# Altium integrated library Silicon Labs Wireless.IntLib: 71 symbols (part 6 of 7)
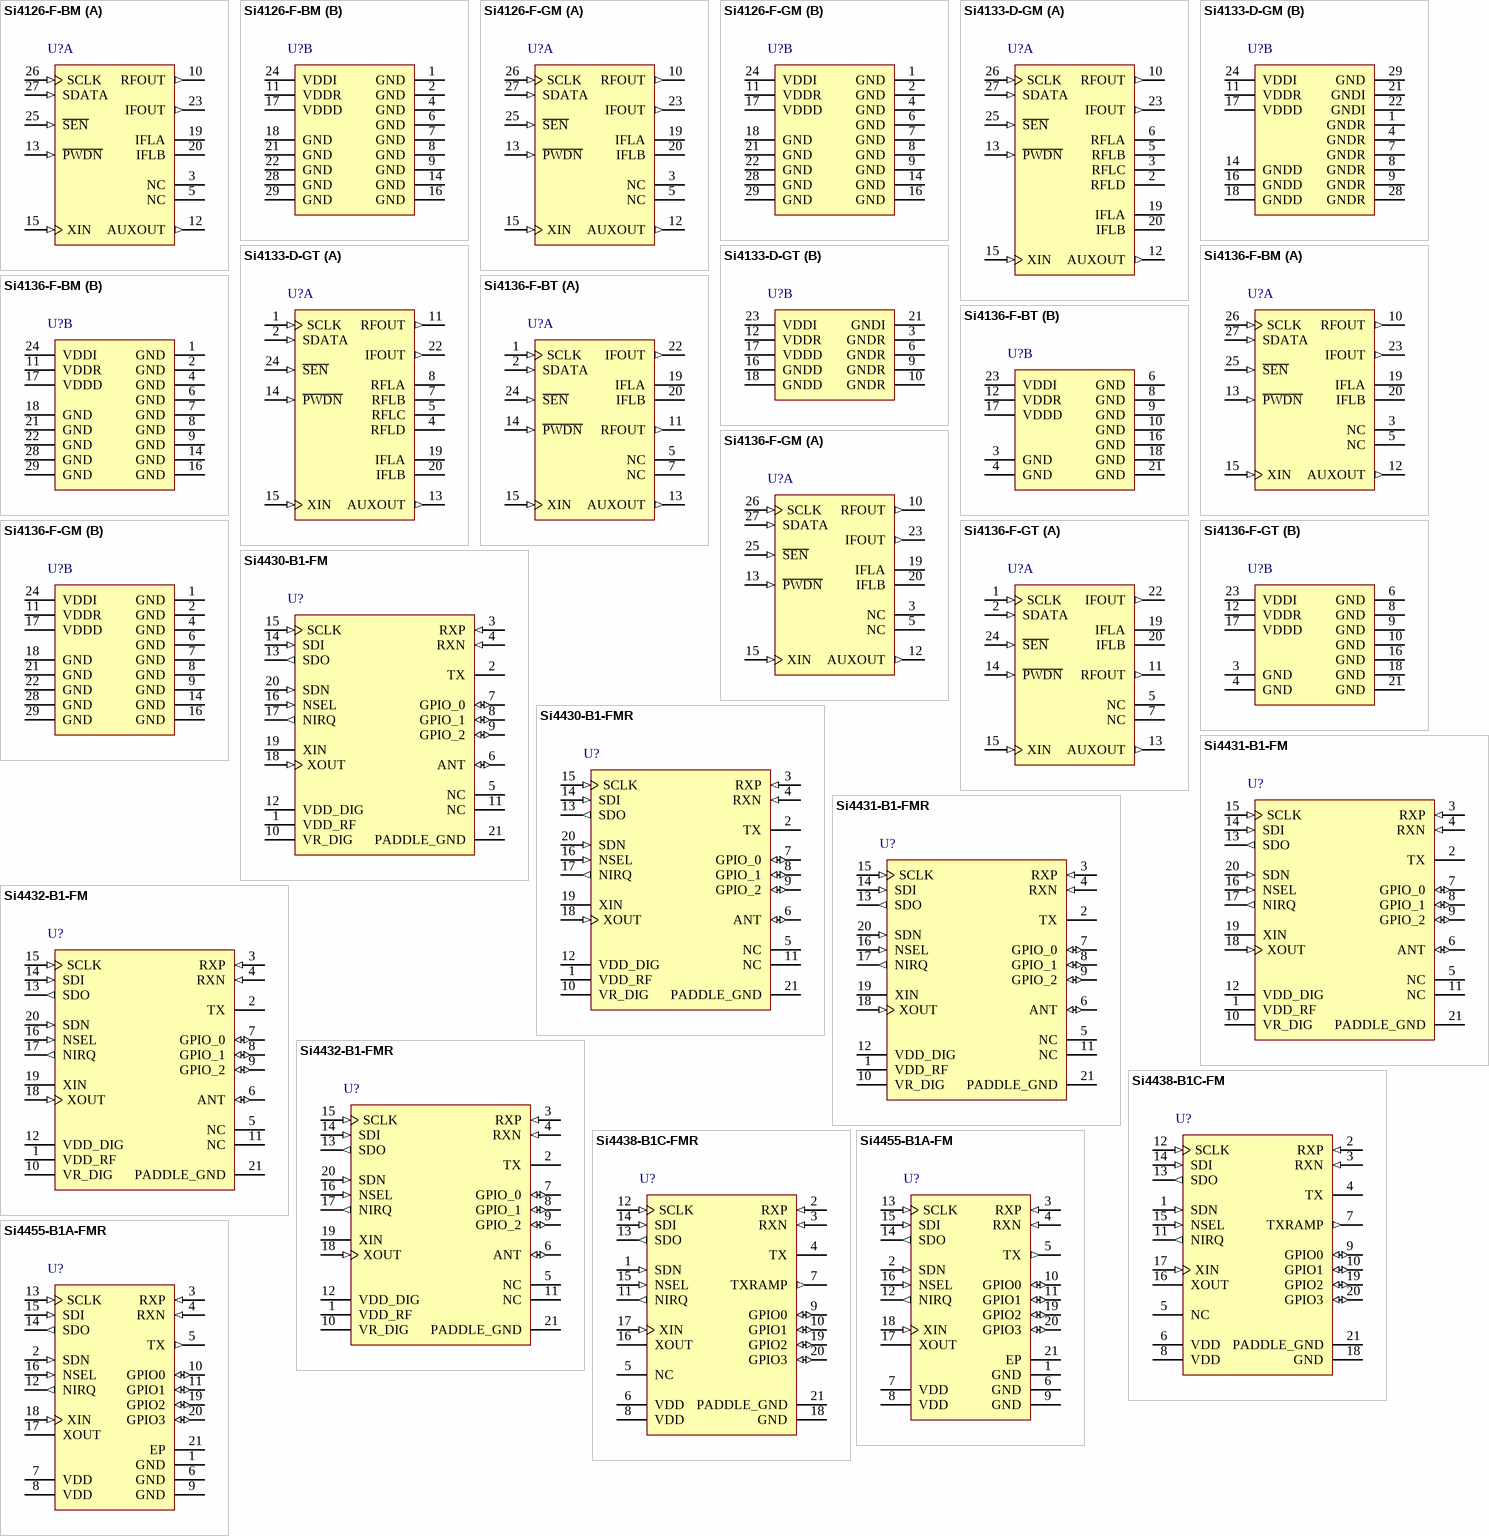
[diagram p11: symbols Si4126-F-BM to Si4455-B1A-FMR]

## Si4430-B1-FM
designator U?
Si4430 ISM Transceiver, 900 to 960 MHz, -8 to 13 dBm Output Power, -40 to 85 degC, 20-pin QFN, Tube; Manufacturer: Silicon Labs; PartNumber: Si4430-B1-FM; FSK/GFSK: 256 kbps; OOK: 40 kbps; RX Current: 18.5 mA; Sub-Family: EZRadioPRO; DatasheetVersion: Rev. 1.1; PackageReference: QFN-20; PackageDescription: 20-Pin Quad-Flat No-Leads Package, Body 4 x 4 mm, Pitch 0.5 mm; Supplier 1: Digi-Key; Supplier Part Number 1: 336-2520-5-ND; Supplier 2: Mouser; Supplier Part Number 2: 634-SI4430-B1-FM; Frequency Range: 900 to 960 MHz; Output Power Range: -8 to 13 dBm; Packing: Tube; Mounting Technology: Surface Mount; Code_JEDEC: MO-220; Code_IPC: J-STD-020C; ComponentLink1Description: Manufacturer URL; ComponentLink1URL: http://www.silabs.com/; ComponentLink2Description: Datasheet; ComponentLink2URL: http://www.silabs.com/Support Documents/TechnicalDocs/Si4430-31-32.pdf; ComponentLink3Description: Package Specification; ComponentLink3URL: http://www.silabs.com/Support%20Documents/TechnicalDocs/Si4464-63-61-60.pdf
footprint SLAB-QFN-20-2600x2600TP_N (QFN, 20-Leads, Body 4x4mm, Pitch 0.5mm, Thermal Pad 2.6x2.6mm, IPC Medium Density)
footprint SLAB-QFN-20-2600x2600TP_L (QFN, 20-Leads, Body 4x4mm, Pitch 0.5mm, Thermal Pad 2.6x2.6mm, IPC High Density)
footprint SLAB-QFN-20-2600x2600TP_M (QFN, 20-Leads, Body 4x4mm, Pitch 0.5mm, Thermal Pad 2.6x2.6mm, IPC Low Density)
pins: 1 VDD_RF (power) "+1.8 to +3.6 V supply voltage input to all analog +1.7 V regulators. The recommended VDD supply voltage is +3.3 V.", 2 TX (oc) "Transmit output pin. The PA output is an open-drain connection so the L-C match must supply VDD (+3.3 VDC nominal) to this pin.", 3 RXP (in) "Differential RF input pins of the LNA. See application schematic for example matching network.", 4 RXN (in) "Differential RF input pins of the LNA. See application schematic for example matching network.", 5 NC "No Connect. Not connected internally to any circuitry.", 6 ANT (io) "Extra antenna or TR switch control to be used if more GPIO are required. Pin is a hardwired version of GPIO setting 11000, Antenna 2 and can be manually controlled by the antdiv[2:0] bits in register 08h. See register (See Datasheet)", 7 GPIO_0 (io) "General Purpose Digital I/O that may be configured through the registers to perform various functions including: Microcontroller Clock Output, FIFO status, POR, Wake-Up timer, Low Battery Detect, TRSW, AntDiversity control, (See Datasheet)", 8 GPIO_1 (io) "General Purpose Digital I/O that may be configured through the registers to perform various functions including: Microcontroller Clock Output, FIFO status, POR, Wake-Up timer, Low Battery Detect, TRSW, AntDiversity control, (See Datasheet)", 9 GPIO_2 (io) "General Purpose Digital I/O that may be configured through the registers to perform various functions including: Microcontroller Clock Output, FIFO status, POR, Wake-Up timer, Low Battery Detect, TRSW, AntDiversity control, (See Datasheet)", 10 VR_DIG (power) "Regulated Output Voltage of the Digital 1.7 V Regulator. A 1 uF decoupling capacitor is required.", 11 NC "Internally this pin is tied to the paddle of the package. This pin should be left unconnected or connected to GND only.", 12 VDD_DIG (power) "+1.8 to +3.6 V supply voltage input to the Digital +1.7 V Regulator. The recommended VDD supply voltage is +3.3 V.", 13 SDO (out) "0-VDD V digital output that provides a serial readback function of the internal control registers.", 14 SDI (in) "Serial Data input. 0-VDD V digital input. This pin provides the serial data stream for the 4-line serial data bus.", 15 SCLK (in) "Serial Clock input. 0-VDD V digital input. This pin provides the serial data clock function for the 4-line serial data bus. Data is clocked into the Si4430/31/32 on positive edge transitions.", 16 NSEL (in) "Serial Interface Select input. 0- VDD V digital input. This pin provides the Select/Enable function for the 4-line serial data bus. The signal is also used to signify burst read/write mode.", 17 NIRQ (out) "General Microcontroller Interrupt Status output. When the Si4430/31/32 exhibits anyone of the Interrupt Events the nIRQ pin will be set low=0. Please see the Control Logic registers section for more information on the (See Datasheet)", 18 XOUT (in) "Crystal Oscillator Output. Connect to an external 30 MHz crystal or to an external source. If using an external source with no crystal then dc coupling with a nominal 0.8 VDC level is recommended with a minimum amplitude of (See Datasheet)", 19 XIN "Crystal Oscillator Input. Connect to an external 30 MHz crystal or leave floating when driving with an external source on XOUT..", 20 SDN (in) "Shutdown input pin. 0-VDD V digital input. SDN should be = 0 in all modes except Shutdown mode. When SDN =1 the chip will be completely shutdown and the contents of the registers will be lost.", 21 PADDLE_GND (power) "The exposed metal paddle on the bottom of the Si4430/31/32 supplies the RF and circuit ground(s) for the entire chip. It is very important that a good solder connection is made between this exposed metal paddle and the (See Datasheet)"

## Si4430-B1-FMR
designator U?
Si4430 ISM Transceiver, 900 to 960 MHz, -8 to 13 dBm Output Power, -40 to 85 degC, 20-pin QFN, Tape and Reel; Manufacturer: Silicon Labs; PartNumber: Si4430-B1-FMR; FSK/GFSK: 256 kbps; OOK: 40 kbps; RX Current: 18.5 mA; Sub-Family: EZRadioPRO; DatasheetVersion: Rev. 1.1; PackageReference: QFN-20; PackageDescription: 20-Pin Quad-Flat No-Leads Package, Body 4 x 4 mm, Pitch 0.5 mm; Supplier 1: Digi-Key; Supplier Part Number 1: SI4430-B1-FMR-ND; Supplier 2: Mouser; Supplier Part Number 2: 634-SI4430-B1-FMR; Frequency Range: 900 to 960 MHz; Output Power Range: -8 to 13 dBm; Packing: Tape and Reel; Mounting Technology: Surface Mount; Code_JEDEC: MO-220; Code_IPC: J-STD-020C; ComponentLink1Description: Manufacturer URL; ComponentLink1URL: http://www.silabs.com/; ComponentLink2Description: Datasheet; ComponentLink2URL: http://www.silabs.com/Support Documents/TechnicalDocs/Si4430-31-32.pdf; ComponentLink3Description: Package Specification; ComponentLink3URL: http://www.silabs.com/Support%20Documents/TechnicalDocs/Si4464-63-61-60.pdf
footprint SLAB-QFN-20-2600x2600TP_N (QFN, 20-Leads, Body 4x4mm, Pitch 0.5mm, Thermal Pad 2.6x2.6mm, IPC Medium Density)
footprint SLAB-QFN-20-2600x2600TP_L (QFN, 20-Leads, Body 4x4mm, Pitch 0.5mm, Thermal Pad 2.6x2.6mm, IPC High Density)
footprint SLAB-QFN-20-2600x2600TP_M (QFN, 20-Leads, Body 4x4mm, Pitch 0.5mm, Thermal Pad 2.6x2.6mm, IPC Low Density)
pins: 1 VDD_RF (power) "+1.8 to +3.6 V supply voltage input to all analog +1.7 V regulators. The recommended VDD supply voltage is +3.3 V.", 2 TX (oc) "Transmit output pin. The PA output is an open-drain connection so the L-C match must supply VDD (+3.3 VDC nominal) to this pin.", 3 RXP (in) "Differential RF input pins of the LNA. See application schematic for example matching network.", 4 RXN (in) "Differential RF input pins of the LNA. See application schematic for example matching network.", 5 NC "No Connect. Not connected internally to any circuitry.", 6 ANT (io) "Extra antenna or TR switch control to be used if more GPIO are required. Pin is a hardwired version of GPIO setting 11000, Antenna 2 and can be manually controlled by the antdiv[2:0] bits in register 08h. See register (See Datasheet)", 7 GPIO_0 (io) "General Purpose Digital I/O that may be configured through the registers to perform various functions including: Microcontroller Clock Output, FIFO status, POR, Wake-Up timer, Low Battery Detect, TRSW, AntDiversity control, (See Datasheet)", 8 GPIO_1 (io) "General Purpose Digital I/O that may be configured through the registers to perform various functions including: Microcontroller Clock Output, FIFO status, POR, Wake-Up timer, Low Battery Detect, TRSW, AntDiversity control, (See Datasheet)", 9 GPIO_2 (io) "General Purpose Digital I/O that may be configured through the registers to perform various functions including: Microcontroller Clock Output, FIFO status, POR, Wake-Up timer, Low Battery Detect, TRSW, AntDiversity control, (See Datasheet)", 10 VR_DIG (power) "Regulated Output Voltage of the Digital 1.7 V Regulator. A 1 uF decoupling capacitor is required.", 11 NC "Internally this pin is tied to the paddle of the package. This pin should be left unconnected or connected to GND only.", 12 VDD_DIG (power) "+1.8 to +3.6 V supply voltage input to the Digital +1.7 V Regulator. The recommended VDD supply voltage is +3.3 V.", 13 SDO (out) "0-VDD V digital output that provides a serial readback function of the internal control registers.", 14 SDI (in) "Serial Data input. 0-VDD V digital input. This pin provides the serial data stream for the 4-line serial data bus.", 15 SCLK (in) "Serial Clock input. 0-VDD V digital input. This pin provides the serial data clock function for the 4-line serial data bus. Data is clocked into the Si4430/31/32 on positive edge transitions.", 16 NSEL (in) "Serial Interface Select input. 0- VDD V digital input. This pin provides the Select/Enable function for the 4-line serial data bus. The signal is also used to signify burst read/write mode.", 17 NIRQ (out) "General Microcontroller Interrupt Status output. When the Si4430/31/32 exhibits anyone of the Interrupt Events the nIRQ pin will be set low=0. Please see the Control Logic registers section for more information on the (See Datasheet)", 18 XOUT (in) "Crystal Oscillator Output. Connect to an external 30 MHz crystal or to an external source. If using an external source with no crystal then dc coupling with a nominal 0.8 VDC level is recommended with a minimum amplitude of (See Datasheet)", 19 XIN "Crystal Oscillator Input. Connect to an external 30 MHz crystal or leave floating when driving with an external source on XOUT..", 20 SDN (in) "Shutdown input pin. 0-VDD V digital input. SDN should be = 0 in all modes except Shutdown mode. When SDN =1 the chip will be completely shutdown and the contents of the registers will be lost.", 21 PADDLE_GND (power) "The exposed metal paddle on the bottom of the Si4430/31/32 supplies the RF and circuit ground(s) for the entire chip. It is very important that a good solder connection is made between this exposed metal paddle and the (See Datasheet)"

## Si4431-B1-FM
designator U?
Si4431 ISM Transceiver, 240 to 930 MHz, -8 to 13 dBm Output Power, -40 to 85 degC, 20-pin QFN, Tube; Manufacturer: Silicon Labs; PartNumber: Si4431-B1-FM; FSK/GFSK: 256 kbps; OOK: 40 kbps; RX Current: 18.5 mA; Sub-Family: EZRadioPRO; DatasheetVersion: Rev. 1.1; PackageReference: QFN-20; PackageDescription: 20-Pin Quad-Flat No-Leads Package, Body 4 x 4 mm, Pitch 0.5 mm; Supplier 1: Digi-Key; Supplier Part Number 1: 336-2521-5-ND; Supplier 2: Mouser; Supplier Part Number 2: 634-SI4431-B1-FM; Frequency Range: 240 to 930 MHz; Output Power Range: -8 to 13 dBm; Packing: Tube; Mounting Technology: Surface Mount; Code_JEDEC: MO-220; Code_IPC: J-STD-020C; ComponentLink1Description: Manufacturer URL; ComponentLink1URL: http://www.silabs.com/; ComponentLink2Description: Datasheet; ComponentLink2URL: http://www.silabs.com/Support Documents/TechnicalDocs/Si4430-31-32.pdf; ComponentLink3Description: Package Specification; ComponentLink3URL: http://www.silabs.com/Support%20Documents/TechnicalDocs/Si4464-63-61-60.pdf
footprint SLAB-QFN-20-2600x2600TP_N (QFN, 20-Leads, Body 4x4mm, Pitch 0.5mm, Thermal Pad 2.6x2.6mm, IPC Medium Density)
footprint SLAB-QFN-20-2600x2600TP_L (QFN, 20-Leads, Body 4x4mm, Pitch 0.5mm, Thermal Pad 2.6x2.6mm, IPC High Density)
footprint SLAB-QFN-20-2600x2600TP_M (QFN, 20-Leads, Body 4x4mm, Pitch 0.5mm, Thermal Pad 2.6x2.6mm, IPC Low Density)
pins: 1 VDD_RF (power) "+1.8 to +3.6 V supply voltage input to all analog +1.7 V regulators. The recommended VDD supply voltage is +3.3 V.", 2 TX (oc) "Transmit output pin. The PA output is an open-drain connection so the L-C match must supply VDD (+3.3 VDC nominal) to this pin.", 3 RXP (in) "Differential RF input pins of the LNA. See application schematic for example matching network.", 4 RXN (in) "Differential RF input pins of the LNA. See application schematic for example matching network.", 5 NC "No Connect. Not connected internally to any circuitry.", 6 ANT (io) "Extra antenna or TR switch control to be used if more GPIO are required. Pin is a hardwired version of GPIO setting 11000, Antenna 2 and can be manually controlled by the antdiv[2:0] bits in register 08h. See register (See Datasheet)", 7 GPIO_0 (io) "General Purpose Digital I/O that may be configured through the registers to perform various functions including: Microcontroller Clock Output, FIFO status, POR, Wake-Up timer, Low Battery Detect, TRSW, AntDiversity control, (See Datasheet)", 8 GPIO_1 (io) "General Purpose Digital I/O that may be configured through the registers to perform various functions including: Microcontroller Clock Output, FIFO status, POR, Wake-Up timer, Low Battery Detect, TRSW, AntDiversity control, (See Datasheet)", 9 GPIO_2 (io) "General Purpose Digital I/O that may be configured through the registers to perform various functions including: Microcontroller Clock Output, FIFO status, POR, Wake-Up timer, Low Battery Detect, TRSW, AntDiversity control, (See Datasheet)", 10 VR_DIG (power) "Regulated Output Voltage of the Digital 1.7 V Regulator. A 1 uF decoupling capacitor is required.", 11 NC "Internally this pin is tied to the paddle of the package. This pin should be left unconnected or connected to GND only.", 12 VDD_DIG (power) "+1.8 to +3.6 V supply voltage input to the Digital +1.7 V Regulator. The recommended VDD supply voltage is +3.3 V.", 13 SDO (out) "0-VDD V digital output that provides a serial readback function of the internal control registers.", 14 SDI (in) "Serial Data input. 0-VDD V digital input. This pin provides the serial data stream for the 4-line serial data bus.", 15 SCLK (in) "Serial Clock input. 0-VDD V digital input. This pin provides the serial data clock function for the 4-line serial data bus. Data is clocked into the Si4430/31/32 on positive edge transitions.", 16 NSEL (in) "Serial Interface Select input. 0- VDD V digital input. This pin provides the Select/Enable function for the 4-line serial data bus. The signal is also used to signify burst read/write mode.", 17 NIRQ (out) "General Microcontroller Interrupt Status output. When the Si4430/31/32 exhibits anyone of the Interrupt Events the nIRQ pin will be set low=0. Please see the Control Logic registers section for more information on the (See Datasheet)", 18 XOUT (in) "Crystal Oscillator Output. Connect to an external 30 MHz crystal or to an external source. If using an external source with no crystal then dc coupling with a nominal 0.8 VDC level is recommended with a minimum amplitude of (See Datasheet)", 19 XIN "Crystal Oscillator Input. Connect to an external 30 MHz crystal or leave floating when driving with an external source on XOUT..", 20 SDN (in) "Shutdown input pin. 0-VDD V digital input. SDN should be = 0 in all modes except Shutdown mode. When SDN =1 the chip will be completely shutdown and the contents of the registers will be lost.", 21 PADDLE_GND (power) "The exposed metal paddle on the bottom of the Si4430/31/32 supplies the RF and circuit ground(s) for the entire chip. It is very important that a good solder connection is made between this exposed metal paddle and the (See Datasheet)"

## Si4431-B1-FMR
designator U?
Si4431 ISM Transceiver, 240 to 930 MHz, -8 to 13 dBm Output Power, -40 to 85 degC, 20-pin QFN, Tape and Reel; Manufacturer: Silicon Labs; PartNumber: Si4431-B1-FMR; FSK/GFSK: 256 kbps; OOK: 40 kbps; RX Current: 18.5 mA; Sub-Family: EZRadioPRO; DatasheetVersion: Rev. 1.1; PackageReference: QFN-20; PackageDescription: 20-Pin Quad-Flat No-Leads Package, Body 4 x 4 mm, Pitch 0.5 mm; Supplier 1: Digi-Key; Supplier Part Number 1: SI4431-B1-FMR-ND; Supplier 2: Mouser; Supplier Part Number 2: 634-SI4431-B1-FMR; Frequency Range: 240 to 930 MHz; Output Power Range: -8 to 13 dBm; Packing: Tape and Reel; Mounting Technology: Surface Mount; Code_JEDEC: MO-220; Code_IPC: J-STD-020C; ComponentLink1Description: Manufacturer URL; ComponentLink1URL: http://www.silabs.com/; ComponentLink2Description: Datasheet; ComponentLink2URL: http://www.silabs.com/Support Documents/TechnicalDocs/Si4430-31-32.pdf; ComponentLink3Description: Package Specification; ComponentLink3URL: http://www.silabs.com/Support%20Documents/TechnicalDocs/Si4464-63-61-60.pdf
footprint SLAB-QFN-20-2600x2600TP_N (QFN, 20-Leads, Body 4x4mm, Pitch 0.5mm, Thermal Pad 2.6x2.6mm, IPC Medium Density)
footprint SLAB-QFN-20-2600x2600TP_L (QFN, 20-Leads, Body 4x4mm, Pitch 0.5mm, Thermal Pad 2.6x2.6mm, IPC High Density)
footprint SLAB-QFN-20-2600x2600TP_M (QFN, 20-Leads, Body 4x4mm, Pitch 0.5mm, Thermal Pad 2.6x2.6mm, IPC Low Density)
pins: 1 VDD_RF (power) "+1.8 to +3.6 V supply voltage input to all analog +1.7 V regulators. The recommended VDD supply voltage is +3.3 V.", 2 TX (oc) "Transmit output pin. The PA output is an open-drain connection so the L-C match must supply VDD (+3.3 VDC nominal) to this pin.", 3 RXP (in) "Differential RF input pins of the LNA. See application schematic for example matching network.", 4 RXN (in) "Differential RF input pins of the LNA. See application schematic for example matching network.", 5 NC "No Connect. Not connected internally to any circuitry.", 6 ANT (io) "Extra antenna or TR switch control to be used if more GPIO are required. Pin is a hardwired version of GPIO setting 11000, Antenna 2 and can be manually controlled by the antdiv[2:0] bits in register 08h. See register (See Datasheet)", 7 GPIO_0 (io) "General Purpose Digital I/O that may be configured through the registers to perform various functions including: Microcontroller Clock Output, FIFO status, POR, Wake-Up timer, Low Battery Detect, TRSW, AntDiversity control, (See Datasheet)", 8 GPIO_1 (io) "General Purpose Digital I/O that may be configured through the registers to perform various functions including: Microcontroller Clock Output, FIFO status, POR, Wake-Up timer, Low Battery Detect, TRSW, AntDiversity control, (See Datasheet)", 9 GPIO_2 (io) "General Purpose Digital I/O that may be configured through the registers to perform various functions including: Microcontroller Clock Output, FIFO status, POR, Wake-Up timer, Low Battery Detect, TRSW, AntDiversity control, (See Datasheet)", 10 VR_DIG (power) "Regulated Output Voltage of the Digital 1.7 V Regulator. A 1 uF decoupling capacitor is required.", 11 NC "Internally this pin is tied to the paddle of the package. This pin should be left unconnected or connected to GND only.", 12 VDD_DIG (power) "+1.8 to +3.6 V supply voltage input to the Digital +1.7 V Regulator. The recommended VDD supply voltage is +3.3 V.", 13 SDO (out) "0-VDD V digital output that provides a serial readback function of the internal control registers.", 14 SDI (in) "Serial Data input. 0-VDD V digital input. This pin provides the serial data stream for the 4-line serial data bus.", 15 SCLK (in) "Serial Clock input. 0-VDD V digital input. This pin provides the serial data clock function for the 4-line serial data bus. Data is clocked into the Si4430/31/32 on positive edge transitions.", 16 NSEL (in) "Serial Interface Select input. 0- VDD V digital input. This pin provides the Select/Enable function for the 4-line serial data bus. The signal is also used to signify burst read/write mode.", 17 NIRQ (out) "General Microcontroller Interrupt Status output. When the Si4430/31/32 exhibits anyone of the Interrupt Events the nIRQ pin will be set low=0. Please see the Control Logic registers section for more information on the (See Datasheet)", 18 XOUT (in) "Crystal Oscillator Output. Connect to an external 30 MHz crystal or to an external source. If using an external source with no crystal then dc coupling with a nominal 0.8 VDC level is recommended with a minimum amplitude of (See Datasheet)", 19 XIN "Crystal Oscillator Input. Connect to an external 30 MHz crystal or leave floating when driving with an external source on XOUT..", 20 SDN (in) "Shutdown input pin. 0-VDD V digital input. SDN should be = 0 in all modes except Shutdown mode. When SDN =1 the chip will be completely shutdown and the contents of the registers will be lost.", 21 PADDLE_GND (power) "The exposed metal paddle on the bottom of the Si4430/31/32 supplies the RF and circuit ground(s) for the entire chip. It is very important that a good solder connection is made between this exposed metal paddle and the (See Datasheet)"

## Si4432-B1-FM
designator U?
Si4432 ISM Transceiver, 240 to 930 MHz, 1 to 20 dBm Output Power, -40 to 85 degC, 20-pin QFN, Tube; Manufacturer: Silicon Labs; PartNumber: Si4432-B1-FM; FSK/GFSK: 256 kbps; OOK: 40 kbps; RX Current: 18.5 mA; Sub-Family: EZRadioPRO; DatasheetVersion: Rev. 1.1; PackageReference: QFN-20; PackageDescription: 20-Pin Quad-Flat No-Leads Package, Body 4 x 4 mm, Pitch 0.5 mm; Supplier 1: Digi-Key; Supplier Part Number 1: 336-2522-5-ND; Supplier 2: Mouser; Supplier Part Number 2: 634-SI4432-B1-FM; Frequency Range: 240 to 930 MHz; Output Power Range: 1 to 20 dBm; Packing: Tube; Mounting Technology: Surface Mount; Code_JEDEC: MO-220; Code_IPC: J-STD-020C; ComponentLink1Description: Manufacturer URL; ComponentLink1URL: http://www.silabs.com/; ComponentLink2Description: Datasheet; ComponentLink2URL: http://www.silabs.com/Support Documents/TechnicalDocs/Si4430-31-32.pdf; ComponentLink3Description: Package Specification; ComponentLink3URL: http://www.silabs.com/Support%20Documents/TechnicalDocs/Si4464-63-61-60.pdf
footprint SLAB-QFN-20-2600x2600TP_N (QFN, 20-Leads, Body 4x4mm, Pitch 0.5mm, Thermal Pad 2.6x2.6mm, IPC Medium Density)
footprint SLAB-QFN-20-2600x2600TP_L (QFN, 20-Leads, Body 4x4mm, Pitch 0.5mm, Thermal Pad 2.6x2.6mm, IPC High Density)
footprint SLAB-QFN-20-2600x2600TP_M (QFN, 20-Leads, Body 4x4mm, Pitch 0.5mm, Thermal Pad 2.6x2.6mm, IPC Low Density)
pins: 1 VDD_RF (power) "+1.8 to +3.6 V supply voltage input to all analog +1.7 V regulators. The recommended VDD supply voltage is +3.3 V.", 2 TX (oc) "Transmit output pin. The PA output is an open-drain connection so the L-C match must supply VDD (+3.3 VDC nominal) to this pin.", 3 RXP (in) "Differential RF input pins of the LNA. See application schematic for example matching network.", 4 RXN (in) "Differential RF input pins of the LNA. See application schematic for example matching network.", 5 NC "No Connect. Not connected internally to any circuitry.", 6 ANT (io) "Extra antenna or TR switch control to be used if more GPIO are required. Pin is a hardwired version of GPIO setting 11000, Antenna 2 and can be manually controlled by the antdiv[2:0] bits in register 08h. See register (See Datasheet)", 7 GPIO_0 (io) "General Purpose Digital I/O that may be configured through the registers to perform various functions including: Microcontroller Clock Output, FIFO status, POR, Wake-Up timer, Low Battery Detect, TRSW, AntDiversity control, (See Datasheet)", 8 GPIO_1 (io) "General Purpose Digital I/O that may be configured through the registers to perform various functions including: Microcontroller Clock Output, FIFO status, POR, Wake-Up timer, Low Battery Detect, TRSW, AntDiversity control, (See Datasheet)", 9 GPIO_2 (io) "General Purpose Digital I/O that may be configured through the registers to perform various functions including: Microcontroller Clock Output, FIFO status, POR, Wake-Up timer, Low Battery Detect, TRSW, AntDiversity control, (See Datasheet)", 10 VR_DIG (power) "Regulated Output Voltage of the Digital 1.7 V Regulator. A 1 uF decoupling capacitor is required.", 11 NC "Internally this pin is tied to the paddle of the package. This pin should be left unconnected or connected to GND only.", 12 VDD_DIG (power) "+1.8 to +3.6 V supply voltage input to the Digital +1.7 V Regulator. The recommended VDD supply voltage is +3.3 V.", 13 SDO (out) "0-VDD V digital output that provides a serial readback function of the internal control registers.", 14 SDI (in) "Serial Data input. 0-VDD V digital input. This pin provides the serial data stream for the 4-line serial data bus.", 15 SCLK (in) "Serial Clock input. 0-VDD V digital input. This pin provides the serial data clock function for the 4-line serial data bus. Data is clocked into the Si4430/31/32 on positive edge transitions.", 16 NSEL (in) "Serial Interface Select input. 0- VDD V digital input. This pin provides the Select/Enable function for the 4-line serial data bus. The signal is also used to signify burst read/write mode.", 17 NIRQ (out) "General Microcontroller Interrupt Status output. When the Si4430/31/32 exhibits anyone of the Interrupt Events the nIRQ pin will be set low=0. Please see the Control Logic registers section for more information on the (See Datasheet)", 18 XOUT (in) "Crystal Oscillator Output. Connect to an external 30 MHz crystal or to an external source. If using an external source with no crystal then dc coupling with a nominal 0.8 VDC level is recommended with a minimum amplitude of (See Datasheet)", 19 XIN "Crystal Oscillator Input. Connect to an external 30 MHz crystal or leave floating when driving with an external source on XOUT..", 20 SDN (in) "Shutdown input pin. 0-VDD V digital input. SDN should be = 0 in all modes except Shutdown mode. When SDN =1 the chip will be completely shutdown and the contents of the registers will be lost.", 21 PADDLE_GND (power) "The exposed metal paddle on the bottom of the Si4430/31/32 supplies the RF and circuit ground(s) for the entire chip. It is very important that a good solder connection is made between this exposed metal paddle and the (See Datasheet)"

## Si4432-B1-FMR
designator U?
Si4432 ISM Transceiver, 240 to 930 MHz, 1 to 20 dBm Output Power, -40 to 85 degC, 20-pin QFN, Tape and Reel; Manufacturer: Silicon Labs; PartNumber: Si4432-B1-FMR; FSK/GFSK: 256 kbps; OOK: 40 kbps; RX Current: 18.5 mA; Sub-Family: EZRadioPRO; DatasheetVersion: Rev. 1.1; PackageReference: QFN-20; PackageDescription: 20-Pin Quad-Flat No-Leads Package, Body 4 x 4 mm, Pitch 0.5 mm; Supplier 1: Digi-Key; Supplier Part Number 1: SI4432-B1-FMR-ND; Supplier 2: Mouser; Supplier Part Number 2: 634-SI4432-B1-FMR; Frequency Range: 240 to 930 MHz; Output Power Range: 1 to 20 dBm; Packing: Tape and Reel; Mounting Technology: Surface Mount; Code_JEDEC: MO-220; Code_IPC: J-STD-020C; ComponentLink1Description: Manufacturer URL; ComponentLink1URL: http://www.silabs.com/; ComponentLink2Description: Datasheet; ComponentLink2URL: http://www.silabs.com/Support Documents/TechnicalDocs/Si4430-31-32.pdf; ComponentLink3Description: Package Specification; ComponentLink3URL: http://www.silabs.com/Support%20Documents/TechnicalDocs/Si4464-63-61-60.pdf
footprint SLAB-QFN-20-2600x2600TP_N (QFN, 20-Leads, Body 4x4mm, Pitch 0.5mm, Thermal Pad 2.6x2.6mm, IPC Medium Density)
footprint SLAB-QFN-20-2600x2600TP_L (QFN, 20-Leads, Body 4x4mm, Pitch 0.5mm, Thermal Pad 2.6x2.6mm, IPC High Density)
footprint SLAB-QFN-20-2600x2600TP_M (QFN, 20-Leads, Body 4x4mm, Pitch 0.5mm, Thermal Pad 2.6x2.6mm, IPC Low Density)
pins: 1 VDD_RF (power) "+1.8 to +3.6 V supply voltage input to all analog +1.7 V regulators. The recommended VDD supply voltage is +3.3 V.", 2 TX (oc) "Transmit output pin. The PA output is an open-drain connection so the L-C match must supply VDD (+3.3 VDC nominal) to this pin.", 3 RXP (in) "Differential RF input pins of the LNA. See application schematic for example matching network.", 4 RXN (in) "Differential RF input pins of the LNA. See application schematic for example matching network.", 5 NC "No Connect. Not connected internally to any circuitry.", 6 ANT (io) "Extra antenna or TR switch control to be used if more GPIO are required. Pin is a hardwired version of GPIO setting 11000, Antenna 2 and can be manually controlled by the antdiv[2:0] bits in register 08h. See register (See Datasheet)", 7 GPIO_0 (io) "General Purpose Digital I/O that may be configured through the registers to perform various functions including: Microcontroller Clock Output, FIFO status, POR, Wake-Up timer, Low Battery Detect, TRSW, AntDiversity control, (See Datasheet)", 8 GPIO_1 (io) "General Purpose Digital I/O that may be configured through the registers to perform various functions including: Microcontroller Clock Output, FIFO status, POR, Wake-Up timer, Low Battery Detect, TRSW, AntDiversity control, (See Datasheet)", 9 GPIO_2 (io) "General Purpose Digital I/O that may be configured through the registers to perform various functions including: Microcontroller Clock Output, FIFO status, POR, Wake-Up timer, Low Battery Detect, TRSW, AntDiversity control, (See Datasheet)", 10 VR_DIG (power) "Regulated Output Voltage of the Digital 1.7 V Regulator. A 1 uF decoupling capacitor is required.", 11 NC "Internally this pin is tied to the paddle of the package. This pin should be left unconnected or connected to GND only.", 12 VDD_DIG (power) "+1.8 to +3.6 V supply voltage input to the Digital +1.7 V Regulator. The recommended VDD supply voltage is +3.3 V.", 13 SDO (out) "0-VDD V digital output that provides a serial readback function of the internal control registers.", 14 SDI (in) "Serial Data input. 0-VDD V digital input. This pin provides the serial data stream for the 4-line serial data bus.", 15 SCLK (in) "Serial Clock input. 0-VDD V digital input. This pin provides the serial data clock function for the 4-line serial data bus. Data is clocked into the Si4430/31/32 on positive edge transitions.", 16 NSEL (in) "Serial Interface Select input. 0- VDD V digital input. This pin provides the Select/Enable function for the 4-line serial data bus. The signal is also used to signify burst read/write mode.", 17 NIRQ (out) "General Microcontroller Interrupt Status output. When the Si4430/31/32 exhibits anyone of the Interrupt Events the nIRQ pin will be set low=0. Please see the Control Logic registers section for more information on the (See Datasheet)", 18 XOUT (in) "Crystal Oscillator Output. Connect to an external 30 MHz crystal or to an external source. If using an external source with no crystal then dc coupling with a nominal 0.8 VDC level is recommended with a minimum amplitude of (See Datasheet)", 19 XIN "Crystal Oscillator Input. Connect to an external 30 MHz crystal or leave floating when driving with an external source on XOUT..", 20 SDN (in) "Shutdown input pin. 0-VDD V digital input. SDN should be = 0 in all modes except Shutdown mode. When SDN =1 the chip will be completely shutdown and the contents of the registers will be lost.", 21 PADDLE_GND (power) "The exposed metal paddle on the bottom of the Si4430/31/32 supplies the RF and circuit ground(s) for the entire chip. It is very important that a good solder connection is made between this exposed metal paddle and the (See Datasheet)"

## Si4438-B1C-FM
designator U?
High-Performance, Low-Current Transceiver, 425 to 525 MHz, -20 to 20 dBm Output Power, -40 to 85 degC, 20-pin QFN, Tube; Manufacturer: Silicon Labs; PartNumber: Si4438-B1C-FM; FSK/GFSK: 500 kbps; OOK: 120 kbps; RX Current: 14 mA; Sub-Family: EZRadioPRO; DatasheetVersion: Rev. 0.1; PackageReference: QFN-20; PackageDescription: 20-Pin Quad-Flat No-Leads Package, Body 4 x 4 mm, Pitch 0.5 mm; Supplier 1: Digi-Key; Supplier Part Number 1: SI4438-B1C-FM-ND; Supplier 2: Mouser; Supplier Part Number 2: 634-SI4438-B1C-FM; Frequency Range: 425 to 525 MHz; Output Power Range: -20 to 20 dBm; Packing: Tube; Mounting Technology: Surface Mount; Code_JEDEC: MO-220; Code_IPC: J-STD-020C; ComponentLink1Description: Manufacturer URL; ComponentLink1URL: http://www.silabs.com/; ComponentLink2Description: Datasheet; ComponentLink2URL: http://www.silabs.com/Support Documents/TechnicalDocs/Si4438.pdf; ComponentLink3Description: Package Specification; ComponentLink3URL: http://www.silabs.com/Support%20Documents/TechnicalDocs/Si4464-63-61-60.pdf
footprint SLAB-QFN-20-2600x2600TP_N (QFN, 20-Leads, Body 4x4mm, Pitch 0.5mm, Thermal Pad 2.6x2.6mm, IPC Medium Density)
footprint SLAB-QFN-20-2600x2600TP_L (QFN, 20-Leads, Body 4x4mm, Pitch 0.5mm, Thermal Pad 2.6x2.6mm, IPC High Density)
footprint SLAB-QFN-20-2600x2600TP_M (QFN, 20-Leads, Body 4x4mm, Pitch 0.5mm, Thermal Pad 2.6x2.6mm, IPC Low Density)
pins: 1 SDN (in) "Shutdown input pin. 0-VDD V digital input. SDN should be = 0 in all modes except Shutdown mode. When SDN =1 the chip will be completely shutdown and the contents of the registers will be lost.", 2 RXP (in) "Differential RF input pins of the LNA. See application schematic for example matching network.", 3 RXN (in) "Differential RF input pins of the LNA. See application schematic for example matching network.", 4 TX (oc) "Transmit output pin. The PA output is an open-drain connection so the L-C match must supply VDD (+3.3 VDC nominal) to this pin.", 5 NC "No Connect. Not connected internally to any circuitry.", 6 VDD (power) "+1.8 to +3.6 V Supply Voltage Input to Internal Regulators", 7 TXRAMP (out) "Programmable Bias Output with Ramp Capability for External FET PA", 8 VDD (power) "+1.8 to +3.6 V Supply Voltage Input to Internal Regulators", 9 GPIO0 (io) "General Purpose Digital I/O", 10 GPIO1 (io) "General Purpose Digital I/O", 11 NIRQ (out), 12 SCLK (in), 13 SDO (out) "0-VDD V digital output that provides a serial readback function of the internal control registers.", 14 SDI (in) "Serial Data input. 0-VDD V digital input. This pin provides the serial data stream for the 4-line serial data bus.", 15 NSEL (in) "Serial Interface Select input. 0- VDD V digital input. This pin provides the Select/Enable function for the 4-line serial data bus. The signal is also used to signify burst read/write mode.", 16 XOUT "Crystal Oscillator Output.", 17 XIN (in) "Crystal Oscillator Input.", 18 GND (power) "Connect to PCB ground", 19 GPIO2 (io) "General Purpose Digital I/O", 20 GPIO3 (io) "General Purpose Digital I/O", 21 PADDLE_GND (power)

## Si4438-B1C-FMR
designator U?
High-Performance, Low-Current Transceiver, 425 to 525 MHz, -20 to 20 dBm Output Power, -40 to 85 degC, 20-pin QFN, Tape and Reel; Manufacturer: Silicon Labs; PartNumber: Si4438-B1C-FMR; FSK/GFSK: 500 kbps; OOK: 120 kbps; RX Current: 14 mA; Sub-Family: EZRadioPRO; DatasheetVersion: Rev. 0.1; PackageReference: QFN-20; PackageDescription: 20-Pin Quad-Flat No-Leads Package, Body 4 x 4 mm, Pitch 0.5 mm; Supplier 1: Digi-Key; Supplier Part Number 1: SI4438-B1C-FMR-ND; Supplier 2: Mouser; Supplier Part Number 2: 634-SI4438-B1C-FMR; Frequency Range: 425 to 525 MHz; Output Power Range: -20 to 20 dBm; Packing: Tape and Reel; Mounting Technology: Surface Mount; Code_JEDEC: MO-220; Code_IPC: J-STD-020C; ComponentLink1Description: Manufacturer URL; ComponentLink1URL: http://www.silabs.com/; ComponentLink2Description: Datasheet; ComponentLink2URL: http://www.silabs.com/Support Documents/TechnicalDocs/Si4438.pdf; ComponentLink3Description: Package Specification; ComponentLink3URL: http://www.silabs.com/Support%20Documents/TechnicalDocs/Si4464-63-61-60.pdf
footprint SLAB-QFN-20-2600x2600TP_N (QFN, 20-Leads, Body 4x4mm, Pitch 0.5mm, Thermal Pad 2.6x2.6mm, IPC Medium Density)
footprint SLAB-QFN-20-2600x2600TP_L (QFN, 20-Leads, Body 4x4mm, Pitch 0.5mm, Thermal Pad 2.6x2.6mm, IPC High Density)
footprint SLAB-QFN-20-2600x2600TP_M (QFN, 20-Leads, Body 4x4mm, Pitch 0.5mm, Thermal Pad 2.6x2.6mm, IPC Low Density)
pins: 1 SDN (in) "Shutdown input pin. 0-VDD V digital input. SDN should be = 0 in all modes except Shutdown mode. When SDN =1 the chip will be completely shutdown and the contents of the registers will be lost.", 2 RXP (in) "Differential RF input pins of the LNA. See application schematic for example matching network.", 3 RXN (in) "Differential RF input pins of the LNA. See application schematic for example matching network.", 4 TX (oc) "Transmit output pin. The PA output is an open-drain connection so the L-C match must supply VDD (+3.3 VDC nominal) to this pin.", 5 NC "No Connect. Not connected internally to any circuitry.", 6 VDD (power) "+1.8 to +3.6 V Supply Voltage Input to Internal Regulators", 7 TXRAMP (out) "Programmable Bias Output with Ramp Capability for External FET PA", 8 VDD (power) "+1.8 to +3.6 V Supply Voltage Input to Internal Regulators", 9 GPIO0 (io) "General Purpose Digital I/O", 10 GPIO1 (io) "General Purpose Digital I/O", 11 NIRQ (out), 12 SCLK (in), 13 SDO (out) "0-VDD V digital output that provides a serial readback function of the internal control registers.", 14 SDI (in) "Serial Data input. 0-VDD V digital input. This pin provides the serial data stream for the 4-line serial data bus.", 15 NSEL (in) "Serial Interface Select input. 0- VDD V digital input. This pin provides the Select/Enable function for the 4-line serial data bus. The signal is also used to signify burst read/write mode.", 16 XOUT "Crystal Oscillator Output.", 17 XIN (in) "Crystal Oscillator Input.", 18 GND (power) "Connect to PCB ground", 19 GPIO2 (io) "General Purpose Digital I/O", 20 GPIO3 (io) "General Purpose Digital I/O", 21 PADDLE_GND (power)

## Si4455-B1A-FM
designator U?
Easy-to-Use, Low-Current OOK / (G)FSK Sub-GHz Transceiver, 283 to 960 MHz, 13 dBm Max Output Power, -40 to 85 degC, 20-pin QFN, Tube; Manufacturer: Silicon Labs; PartNumber: Si4455-B1A-FM; FSK Data Rate: 500 kbps; OOK Data Rate: 120 kbps; Output Power 434 MHz: 13 dBm; Sensitivity: -116 dBm; Supply Voltage: 1.8 to 3.6 V; Sub-Family: EZRadio; DatasheetVersion: Rev. 1.0; PackageReference: QFN-20; PackageDescription: 20-Pin Quad-Flat No-Leads Package, Body 3 x 3 mm, Pitch 0.5 mm; Supplier 1: Digi-Key; Supplier Part Number 1: 336-2271-5-ND; Supplier 2: Mouser; Supplier Part Number 2: 634-SI4455-B1A-FM; Packing: Tube; Mounting Technology: Surface Mount; ComponentLink1Description: Manufacturer URL; ComponentLink1URL: http://www.silabs.com/; ComponentLink2Description: Datasheet; ComponentLink2URL: http://www.silabs.com/Support Documents/TechnicalDocs/Si4455.pdf; ComponentLink3Description: Package Specification; ComponentLink3URL: http://www.silabs.com/Support%20Documents/TechnicalDocs/Si4455.pdf
footprint SLAB-QFN-20-1700x1700TP_A_V (QFN, 20-Leads, Body 3x3mm, Pitch 0.5mm, Thermal Pad 1.7x1.7mm)
pins: 1 GND (power) "Ground", 2 SDN (in) "Shutdown (0 - VDD V) - SDN=1, part will be in shutdown mode and contents of all registers are lost. SDN=0, all other modes", 3 RXP (in) "Differential RF receiver input pin", 4 RXN (in) "Differential RF receiver input pin", 5 TX (out) "Transmit RF output pin", 6 GND (power) "Ground", 7 VDD (power) "Supply voltage", 8 VDD (power) "Supply voltage", 9 GND (power) "Ground", 10 GPIO0 (io) "General Purpose Digital I/O", 11 GPIO1 (io) "General Purpose Digital I/O", 12 NIRQ (out) "Interrupt Status Output - nIRQ = 0, interrupt event has occurred. Read interrupt status for event details", 13 SCLK (in) "Serial Clock Input (0 - VDD V): Provides serial data clock for 4-line serial data bus", 14 SDO (out) "Serial Data Output (0 - VDD V): Provides serial data readback function of internal control registers", 15 SDI (in) "Serial Data Input (0 - VDD V): Serial data stream input for 4-line serial data bus", 16 NSEL (in) "Serial Interface Select Input (0 - VDD V): Provides select/enable function for 4-line serial data bus", 17 XOUT "Crystal Oscillator Output", 18 XIN (in) "Crystal Oscillator Input: No dc bias required, but if used, should be set to 0.7 V", 19 GPIO2 (io) "General Purpose Digital I/O", 20 GPIO3 (io) "General Purpose Digital I/O", 21 EP

## Si4455-B1A-FMR
designator U?
Easy-to-Use, Low-Current OOK / (G)FSK Sub-GHz Transceiver, 283 to 960 MHz, 13 dBm Max Output Power, -40 to 85 degC, 20-pin QFN, Tape and Reel; Manufacturer: Silicon Labs; PartNumber: Si4455-B1A-FMR; FSK Data Rate: 500 kbps; OOK Data Rate: 120 kbps; Output Power 434 MHz: 13 dBm; Sensitivity: -116 dBm; Supply Voltage: 1.8 to 3.6 V; Sub-Family: EZRadio; DatasheetVersion: Rev. 1.0; PackageReference: QFN-20; PackageDescription: 20-Pin Quad-Flat No-Leads Package, Body 3 x 3 mm, Pitch 0.5 mm; Supplier 1: Digi-Key; Supplier Part Number 1: SI4455-B1A-FMR-ND; Supplier 2: Mouser; Supplier Part Number 2: 634-SI4455-B1A-FMR; Packing: Tape and Reel; Mounting Technology: Surface Mount; ComponentLink1Description: Manufacturer URL; ComponentLink1URL: http://www.silabs.com/; ComponentLink2Description: Datasheet; ComponentLink2URL: http://www.silabs.com/Support Documents/TechnicalDocs/Si4455.pdf; ComponentLink3Description: Package Specification; ComponentLink3URL: http://www.silabs.com/Support%20Documents/TechnicalDocs/Si4455.pdf
footprint SLAB-QFN-20-1700x1700TP_A_V (QFN, 20-Leads, Body 3x3mm, Pitch 0.5mm, Thermal Pad 1.7x1.7mm)
pins: 1 GND (power) "Ground", 2 SDN (in) "Shutdown (0 - VDD V) - SDN=1, part will be in shutdown mode and contents of all registers are lost. SDN=0, all other modes", 3 RXP (in) "Differential RF receiver input pin", 4 RXN (in) "Differential RF receiver input pin", 5 TX (out) "Transmit RF output pin", 6 GND (power) "Ground", 7 VDD (power) "Supply voltage", 8 VDD (power) "Supply voltage", 9 GND (power) "Ground", 10 GPIO0 (io) "General Purpose Digital I/O", 11 GPIO1 (io) "General Purpose Digital I/O", 12 NIRQ (out) "Interrupt Status Output - nIRQ = 0, interrupt event has occurred. Read interrupt status for event details", 13 SCLK (in) "Serial Clock Input (0 - VDD V): Provides serial data clock for 4-line serial data bus", 14 SDO (out) "Serial Data Output (0 - VDD V): Provides serial data readback function of internal control registers", 15 SDI (in) "Serial Data Input (0 - VDD V): Serial data stream input for 4-line serial data bus", 16 NSEL (in) "Serial Interface Select Input (0 - VDD V): Provides select/enable function for 4-line serial data bus", 17 XOUT "Crystal Oscillator Output", 18 XIN (in) "Crystal Oscillator Input: No dc bias required, but if used, should be set to 0.7 V", 19 GPIO2 (io) "General Purpose Digital I/O", 20 GPIO3 (io) "General Purpose Digital I/O", 21 EP

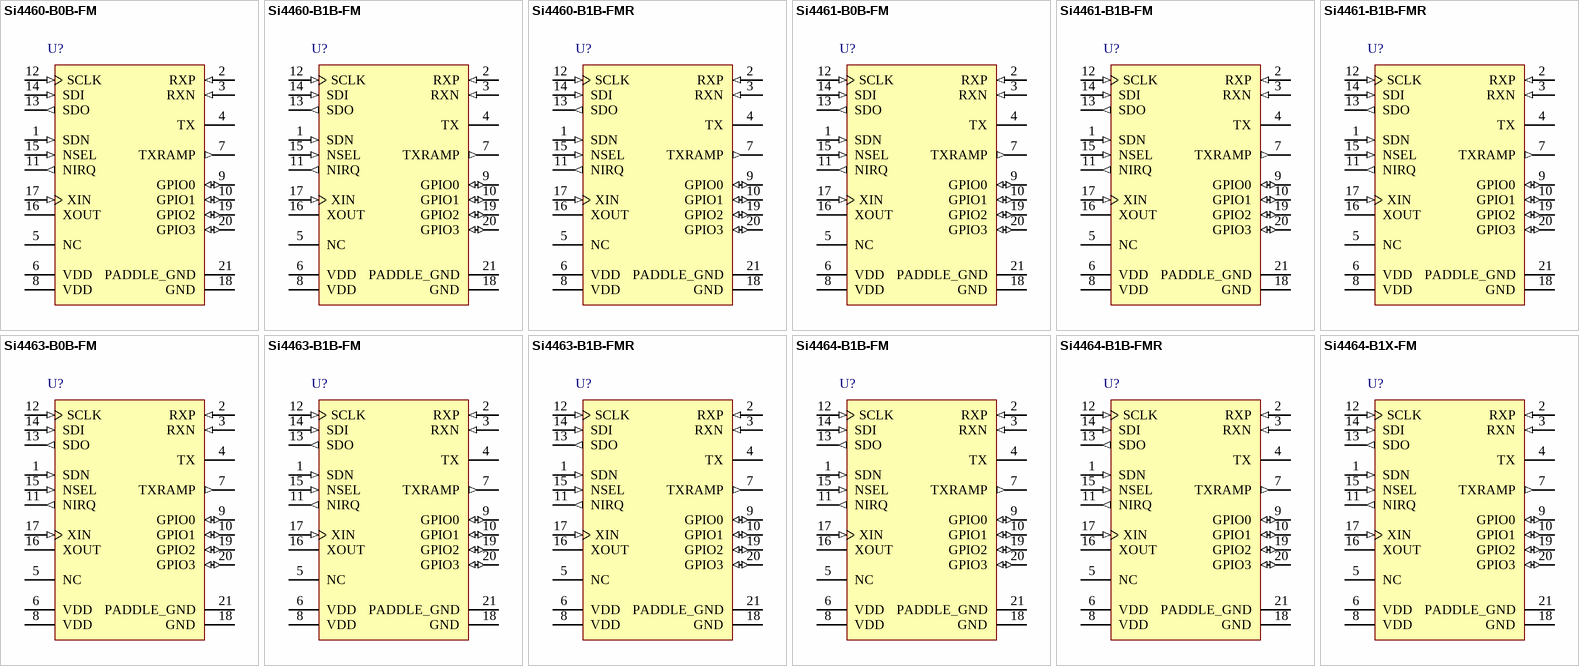
[diagram p6: symbols Si4460-B0B-FM to Si4464-B1X-FM]

## Si4460-B0B-FM
designator U?
High-Performance, Low-Current Transceiver, 142 to 1050 MHz, -40 to 13 dBm Output Power, -40 to 85 degC, 20-pin QFN, Tube; Manufacturer: Silicon Labs; PartNumber: Si4460-B0B-FM; FSK/GFSK: 1000 kbps; OOK: 120 kbps; RX Current: 10/13 mA; Sub-Family: EZRadioPRO; DatasheetVersion: Rev. 1.2; PackageReference: QFN-20; PackageDescription: 20-Pin Quad-Flat No-Leads Package, Body 4 x 4 mm, Pitch 0.5 mm; Supplier 1: Digi-Key; Supplier Part Number 1: SI4460-B0B-FM-ND; Supplier 2: Mouser; Supplier Part Number 2: 634-SI4460-B0B-FM; Frequency Range: 142 to 1050 MHz; Output Power Range: -40 to 13 dBm; Packing: Tube; Mounting Technology: Surface Mount; Code_JEDEC: MO-220; Code_IPC: J-STD-020C; ComponentLink1Description: Manufacturer URL; ComponentLink1URL: http://www.silabs.com/; ComponentLink2Description: Datasheet; ComponentLink2URL: http://www.silabs.com/Support Documents/TechnicalDocs/Si4464-63-61-60.pdf; ComponentLink3Description: Package Specification; ComponentLink3URL: http://www.silabs.com/Support%20Documents/TechnicalDocs/Si4464-63-61-60.pdf
footprint SLAB-QFN-20-2600x2600TP_N (QFN, 20-Leads, Body 4x4mm, Pitch 0.5mm, Thermal Pad 2.6x2.6mm, IPC Medium Density)
footprint SLAB-QFN-20-2600x2600TP_L (QFN, 20-Leads, Body 4x4mm, Pitch 0.5mm, Thermal Pad 2.6x2.6mm, IPC High Density)
footprint SLAB-QFN-20-2600x2600TP_M (QFN, 20-Leads, Body 4x4mm, Pitch 0.5mm, Thermal Pad 2.6x2.6mm, IPC Low Density)
pins: 1 SDN (in) "Shutdown input pin. 0-VDD V digital input. SDN should be = 0 in all modes except Shutdown mode. When SDN =1 the chip will be completely shutdown and the contents of the registers will be lost.", 2 RXP (in) "Differential RF input pins of the LNA. See application schematic for example matching network.", 3 RXN (in) "Differential RF input pins of the LNA. See application schematic for example matching network.", 4 TX (oc) "Transmit output pin. The PA output is an open-drain connection so the L-C match must supply VDD (+3.3 VDC nominal) to this pin.", 5 NC "No Connect. Not connected internally to any circuitry.", 6 VDD (power) "+1.8 to +3.6 V Supply Voltage Input to Internal Regulators", 7 TXRAMP (out) "Programmable Bias Output with Ramp Capability for External FET PA", 8 VDD (power) "+1.8 to +3.6 V Supply Voltage Input to Internal Regulators", 9 GPIO0 (io) "General Purpose Digital I/O", 10 GPIO1 (io) "General Purpose Digital I/O", 11 NIRQ (out), 12 SCLK (in), 13 SDO (out) "0-VDD V digital output that provides a serial readback function of the internal control registers.", 14 SDI (in) "Serial Data input. 0-VDD V digital input. This pin provides the serial data stream for the 4-line serial data bus.", 15 NSEL (in) "Serial Interface Select input. 0- VDD V digital input. This pin provides the Select/Enable function for the 4-line serial data bus. The signal is also used to signify burst read/write mode.", 16 XOUT "Crystal Oscillator Output.", 17 XIN (in) "Crystal Oscillator Input.", 18 GND (power) "Connect to PCB ground", 19 GPIO2 (io) "General Purpose Digital I/O", 20 GPIO3 (io) "General Purpose Digital I/O", 21 PADDLE_GND (power)

## Si4460-B1B-FM
designator U?
High-Performance, Low-Current Transceiver, 142 to 1050 MHz, -40 to 13 dBm Output Power, -40 to 85 degC, 20-pin QFN, Tube; Manufacturer: Silicon Labs; PartNumber: Si4460-B1B-FM; FSK/GFSK: 1000 kbps; OOK: 120 kbps; RX Current: 10/13 mA; Sub-Family: EZRadioPRO; DatasheetVersion: Rev. 1.2; PackageReference: QFN-20; PackageDescription: 20-Pin Quad-Flat No-Leads Package, Body 4 x 4 mm, Pitch 0.5 mm; Supplier 1: Digi-Key; Supplier Part Number 1: 336-2470-5-ND; Supplier 2: Mouser; Supplier Part Number 2: 634-SI4460-B1B-FM; Frequency Range: 142 to 1050 MHz; Output Power Range: -40 to 13 dBm; Packing: Tube; Mounting Technology: Surface Mount; Code_JEDEC: MO-220; Code_IPC: J-STD-020C; ComponentLink1Description: Manufacturer URL; ComponentLink1URL: http://www.silabs.com/; ComponentLink2Description: Datasheet; ComponentLink2URL: http://www.silabs.com/Support Documents/TechnicalDocs/Si4464-63-61-60.pdf; ComponentLink3Description: Package Specification; ComponentLink3URL: http://www.silabs.com/Support%20Documents/TechnicalDocs/Si4464-63-61-60.pdf
footprint SLAB-QFN-20-2600x2600TP_N (QFN, 20-Leads, Body 4x4mm, Pitch 0.5mm, Thermal Pad 2.6x2.6mm, IPC Medium Density)
footprint SLAB-QFN-20-2600x2600TP_L (QFN, 20-Leads, Body 4x4mm, Pitch 0.5mm, Thermal Pad 2.6x2.6mm, IPC High Density)
footprint SLAB-QFN-20-2600x2600TP_M (QFN, 20-Leads, Body 4x4mm, Pitch 0.5mm, Thermal Pad 2.6x2.6mm, IPC Low Density)
pins: 1 SDN (in) "Shutdown input pin. 0-VDD V digital input. SDN should be = 0 in all modes except Shutdown mode. When SDN =1 the chip will be completely shutdown and the contents of the registers will be lost.", 2 RXP (in) "Differential RF input pins of the LNA. See application schematic for example matching network.", 3 RXN (in) "Differential RF input pins of the LNA. See application schematic for example matching network.", 4 TX (oc) "Transmit output pin. The PA output is an open-drain connection so the L-C match must supply VDD (+3.3 VDC nominal) to this pin.", 5 NC "No Connect. Not connected internally to any circuitry.", 6 VDD (power) "+1.8 to +3.6 V Supply Voltage Input to Internal Regulators", 7 TXRAMP (out) "Programmable Bias Output with Ramp Capability for External FET PA", 8 VDD (power) "+1.8 to +3.6 V Supply Voltage Input to Internal Regulators", 9 GPIO0 (io) "General Purpose Digital I/O", 10 GPIO1 (io) "General Purpose Digital I/O", 11 NIRQ (out), 12 SCLK (in), 13 SDO (out) "0-VDD V digital output that provides a serial readback function of the internal control registers.", 14 SDI (in) "Serial Data input. 0-VDD V digital input. This pin provides the serial data stream for the 4-line serial data bus.", 15 NSEL (in) "Serial Interface Select input. 0- VDD V digital input. This pin provides the Select/Enable function for the 4-line serial data bus. The signal is also used to signify burst read/write mode.", 16 XOUT "Crystal Oscillator Output.", 17 XIN (in) "Crystal Oscillator Input.", 18 GND (power) "Connect to PCB ground", 19 GPIO2 (io) "General Purpose Digital I/O", 20 GPIO3 (io) "General Purpose Digital I/O", 21 PADDLE_GND (power)